# Altium schematic symbol library DC-DC-module-generic.Schlib: 1 symbol
Pins are listed as number, name and electrical type; pins without a type are passive.

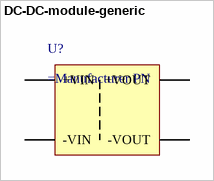
[diagram p0: symbol DC-DC-module-generic]

## DC-DC-module-generic
designator U?
Generic 4-pin DC-DC converter Module
pins: +VIN, +VOUT, -VIN, -VOUT